# Altium footprint library RLP1-600-800.PcbLib: 1 footprints
Each footprint in its own frame and in the unit in brackets; x right, y up, seen from the top. Pads: shape width x height; smd on the part's side, far side on the other; paste and mask are expansions set on the pad; w line width, h text height; cw(c..) or ccw(c..) is an arc to the next point about the centre after c.
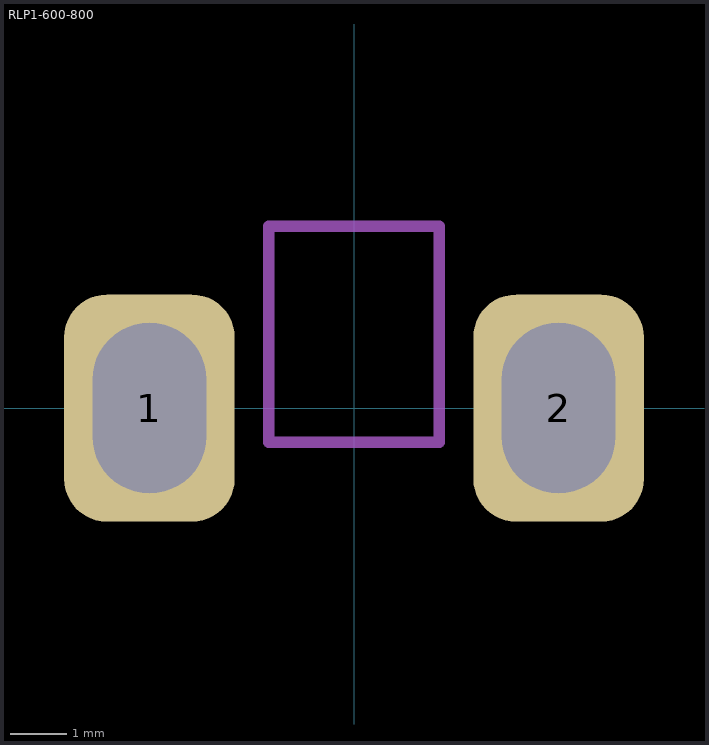
[diagram p0: the footprint, top view; thin cyan lines are the x and y axes]

## RLP1-600-800 [mm]
pads (2):
  rrect50% 3x4 hole 2 slot 3 at 90 deg: 1(-3.6,0) 2(3.6,0)
Comp Assy Info - Top:
  lines w0.2: -1.5,-0.6 -1.5,3.2 1.5,3.2 1.5,-0.6 -1.5,-0.6
3D body: height 17.29, standoff -2.8, extent -4.79,-20 4.77,2.9